# EAGLE library part RGB (library led)
RGB SMD LED Optoflash OF-SMD5060RGB
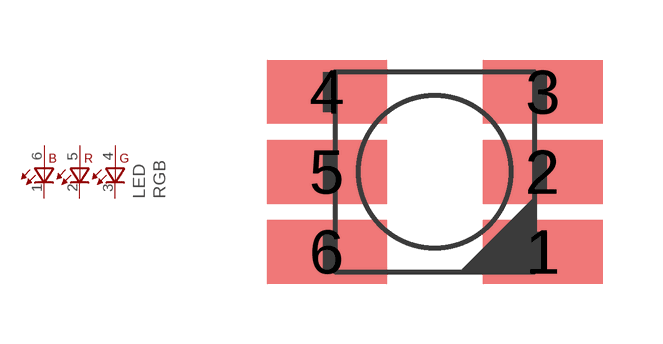
[diagram p6: symbol with the pads of SMD5060RGB; footprint SMD5060RGB]

Designator prefix LED

## RGB  [SMD5060RGB]
1  CBLUE  pas
2  CRED  pas
3  CGREEN  pas
4  AGREEN  pas
5  ARED  pas
6  ABLUE  pas

## Footprint SMD5060RGB (pad centres in mm)
smd 3 x 1.6: 1 2.7,-2; 2 2.7,0; 3 2.7,2; 4 -2.7,2; 5 -2.7,0; 6 -2.7,-2